# Altium integrated library Linear Technology Power Management Switching Regulator LTC1174-LTC3901.IntLib: 2647 symbols (part 212 of 364)
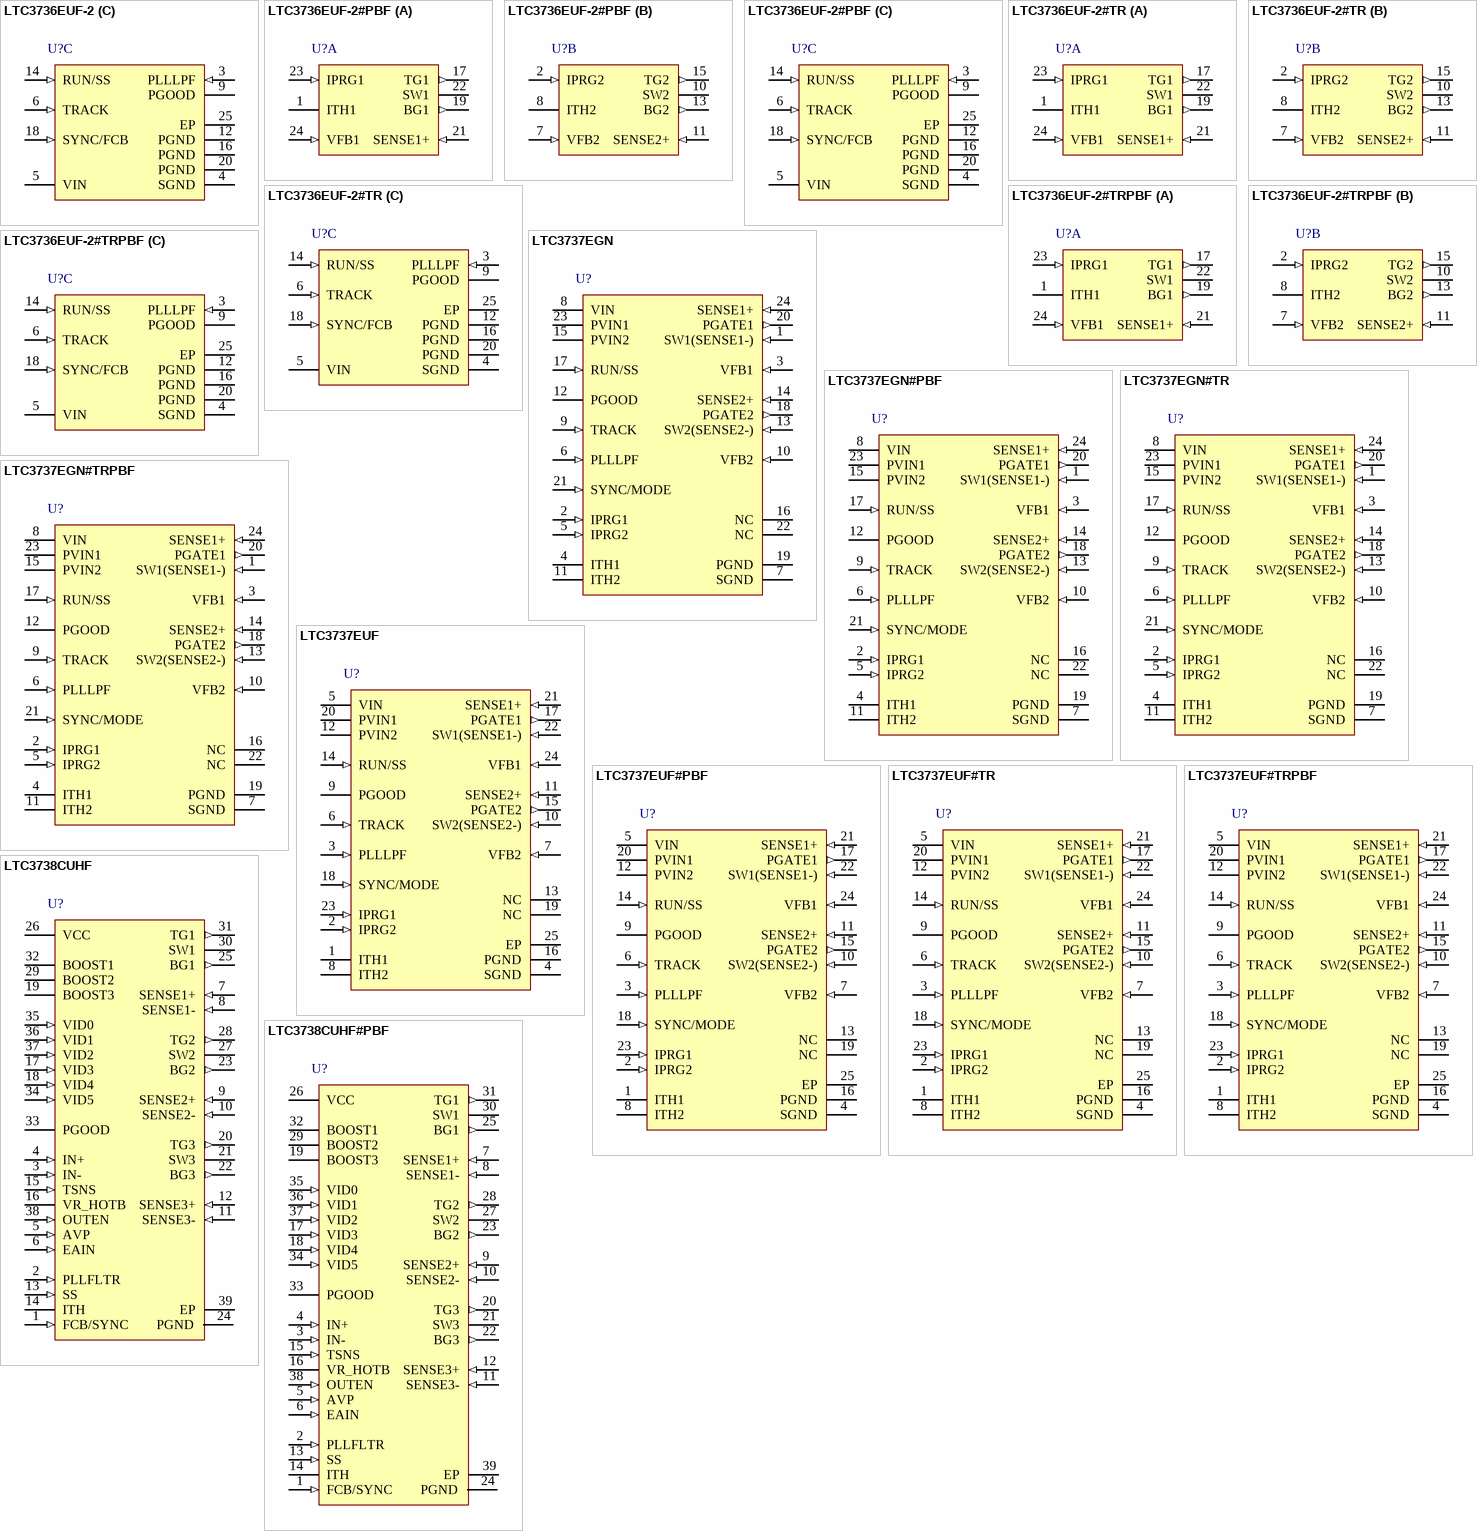
[diagram p225: symbols LTC3736EUF-2 to LTC3738CUHF#PBF]

## LTC3737EGN#TRPBF
designator U?
Dual 2-Phase, No Rsense DC/DC Controller with Output Tracking, 24-pin QFN (UF-24), 24-pin SOP (GN-24), -40 to 85 degC, Pb-Free, Tape and Reel; Manufacturer: Linear Technology; PartNumber: LTC3737EGN#TRPBF; Frequency Sync Range: 250kHz - 850kHz; Number of Outputs: 2; DatasheetVersion: Rev. A; PackageVersion: Rev. B, 03/2012; PackageReference: GN24; PackageDescription: 24-Pin Plastic SSOP , Body 8.5 x 3.9 mm, Pitch 0.635 mm; Supplier 1: Digi-Key; Supplier Part Number 1: LTC3737EGN#TRPBF-ND; Packing: Tape and Reel; RoHS: TRUE; Mounting Technology: Surface Mount; ComponentLink1Description: Manufacturer URL; ComponentLink1URL: http://www.linear.com/; ComponentLink2Description: Datasheet; ComponentLink2URL: http://cds.linear.com/docs/en/datasheet/3737fa.pdf; ComponentLink3Description: Package Specification; ComponentLink3URL: http://cds.linear.com/docs/en/packaging/05081641_B_GN24.pdf
footprint LT-GN-24_N (SOP, 24-Leads, Body 8.7x4mm, Pitch 0.635mm, IPC Medium Density)
footprint LT-GN-24_L (SOP, 24-Leads, Body 8.7x4mm, Pitch 0.635mm, IPC High Density)
footprint LT-GN-24_M (SOP, 24-Leads, Body 8.7x4mm, Pitch 0.635mm, IPC Low Density)
pins: 1 SW1(SENSE1-) (in) "Switch Node Connections to Inductors. Also the negative inputs to differential peak current comparators. Normally connected to the drains of the external P-Channel MOSFETs and the inductor when not using a sense resistor. (See Datasheet)", 2 IPRG1 (in) "Three-State Pins to Select Maximum Peak Sense Voltage Threshold. These pins select the maximum allowed voltage drop between the SENSE+ and SW pins (i.e., the maximum allowed drop across the external P-channel MOSFET) for (See Datasheet)", 3 VFB1 (in) "Each receives the remotely sensed feedback voltage for its controller from an external resistive divider across the output.", 4 ITH1 "Current Threshold and Error Amplifier Compensation Point. Nominal operating range on these pins is from 0.7V to 2V. The voltage on this pin determines the threshold of the main current comparator.", 5 IPRG2 (in) "Three-State Pins to Select Maximum Peak Sense Voltage Threshold. These pins select the maximum allowed voltage drop between the SENSE+ and SW pins (i.e., the maximum allowed drop across the external P-channel MOSFET) for (See Datasheet)", 6 PLLLPF (in) "Frequency Set/PLL Lowpass Filter. When synchronizing to an external clock, this pin serves as the lowpass filter point for the phase-locked loop. Normally, a series RC is connected between this pin and ground. When not (See Datasheet)", 7 SGND (power) "Signal Ground. This pin serves as the ground connection for most internal circuits.", 8 VIN (power) "Chip Signal Power Supply. This pin powers the entire chip except for the gate drivers. Externally filtering this pin with a lowpass RC network (e.g., R = 10ohm, C = 1uF) is suggested to minimize noise pickup, especially in (See Datasheet)", 9 TRACK (in) "Tracking Input for Second Controller. This pin allows the start-up of VOUT2 to “track” that of VOUT1 according to a ratio established by a resistor divider on VOUT1 connected to the TRACK pin. For one-to-one tracking(See Datasheet)", 10 VFB2 (in) "Each receives the remotely sensed feedback voltage for its controller from an external resistive divider across the output.", 11 ITH2 "Current Threshold and Error Amplifier Compensation Point. Nominal operating range on these pins is from 0.7V to 2V. The voltage on this pin determines the threshold of the main current comparator.", 12 PGOOD (oc) "Power Good Output Voltage Monitor Open-Drain Logic Output. This pin is pulled to ground when the voltage on either feedback pin (VFB1, VFB2) is not within +/-13.3% of its nominal set point.", 13 SW2(SENSE2-) (in) "Switch Node Connections to Inductors. Also the negative inputs to differential peak current comparators. Normally connected to the drains of the external P-Channel MOSFETs and the inductor when not using a sense resistor. (See Datasheet)", 14 SENSE2+ (in) "Positive Inputs to Differential Current Comparators. Normally connected to the sources of the external P-channel MOSFETs.", 15 PVIN2 (power) "Powers of the Gate Drivers.", 16 NC "No Connect.", 17 RUN/SS (in) "Run Control Input and Optional External Soft-Start Input. Forcing this pin below 0.65V shuts down the chip (both channels). Driving this pin to VIN or releasing this pin enables the chip to start-up with the internal (See Datasheet)", 18 PGATE2 (out) "Gate Drives for External P-Channel MOSFETs. These pins have an output swing from PGND to SENSE+.", 19 PGND (power) "Power Ground. This pin serves as the ground connection for the gate drivers.", 20 PGATE1 (out) "Gate Drives for External P-Channel MOSFETs. These pins have an output swing from PGND to SENSE+.", 21 SYNC/MODE (in) "External Clock Synchronization and Burst Mode/Pulse Skipping Select. Applying a clock with frequency between 250kHz to 850kHz causes the internal oscillator to phase lock to the external clock, and disables Burst Mode (See Datasheet)", 22 NC "No Connect.", 23 PVIN1 (power) "Powers of the Gate Drivers.", 24 SENSE1+ (in) "Positive Inputs to Differential Current Comparators. Normally connected to the sources of the external P-channel MOSFETs."

## LTC3737EUF
designator U?
Dual 2-Phase, No Rsense DC/DC Controller with Output Tracking, 24-pin QFN (UF-24), -40 to 85 degC; Manufacturer: Linear Technology; PartNumber: LTC3737EUF; Frequency Sync Range: 250kHz - 850kHz; Number of Outputs: 2; DatasheetVersion: Rev. A; PackageVersion: Rev. B, 02/2012; PackageReference: UF24; PackageDescription: 24-Pin Plastic QFN, Body 4 x 4 mm, Pitch 0.5 mm; Supplier 1: Digi-Key; Supplier Part Number 1: LTC3737EUF-ND; RoHS: FALSE; Mounting Technology: Surface Mount; Code_JEDEC: MO-220; ComponentLink1Description: Manufacturer URL; ComponentLink1URL: http://www.linear.com/; ComponentLink2Description: Datasheet; ComponentLink2URL: http://cds.linear.com/docs/en/datasheet/3737fa.pdf; ComponentLink3Description: Package Specification; ComponentLink3URL: http://cds.linear.com/docs/en/packaging/%28UF24%29%20QFN%2005-08-1697%20Rev%20B.pdf
footprint LT-UF-24_N (QFN, 24-Leads, Body 4.1x4.1mm, Pitch 0.5mm, Thermal Pad 2.45x2.45mm, IPC Medium Density)
footprint LT-UF-24_L (QFN, 24-Leads, Body 4.1x4.1mm, Pitch 0.5mm, Thermal Pad 2.45x2.45mm, IPC High Density)
footprint LT-UF-24_M (QFN, 24-Leads, Body 4.1x4.1mm, Pitch 0.5mm, Thermal Pad 2.45x2.45mm, IPC Low Density)
pins: 1 ITH1 "Current Threshold and Error Amplifier Compensation Point. Nominal operating range on these pins is from 0.7V to 2V. The voltage on this pin determines the threshold of the main current comparator.", 2 IPRG2 (in) "Three-State Pins to Select Maximum Peak Sense Voltage Threshold. These pins select the maximum allowed voltage drop between the SENSE+ and SW pins (i.e., the maximum allowed drop across the external P-channel MOSFET) for (See Datasheet)", 3 PLLLPF (in) "Frequency Set/PLL Lowpass Filter. When synchronizing to an external clock, this pin serves as the lowpass filter point for the phase-locked loop. Normally, a series RC is connected between this pin and ground. When not (See Datasheet)", 4 SGND (power) "Signal Ground. This pin serves as the ground connection for most internal circuits.", 5 VIN (power) "Chip Signal Power Supply. This pin powers the entire chip except for the gate drivers. Externally filtering this pin with a lowpass RC network (e.g., R = 10ohm, C = 1uF) is suggested to minimize noise pickup, especially in (See Datasheet)", 6 TRACK (in) "Tracking Input for Second Controller. This pin allows the start-up of VOUT2 to “track” that of VOUT1 according to a ratio established by a resistor divider on VOUT1 connected to the TRACK pin. For one-to-one tracking(See Datasheet)", 7 VFB2 (in) "Each receives the remotely sensed feedback voltage for its controller from an external resistive divider across the output.", 8 ITH2 "Current Threshold and Error Amplifier Compensation Point. Nominal operating range on these pins is from 0.7V to 2V. The voltage on this pin determines the threshold of the main current comparator.", 9 PGOOD (oc) "Power Good Output Voltage Monitor Open-Drain Logic Output. This pin is pulled to ground when the voltage on either feedback pin (VFB1, VFB2) is not within +/-13.3% of its nominal set point.", 10 SW2(SENSE2-) (in) "Switch Node Connections to Inductors. Also the negative inputs to differential peak current comparators. Normally connected to the drains of the external P-Channel MOSFETs and the inductor when not using a sense resistor. (See Datasheet)", 11 SENSE2+ (in) "Positive Inputs to Differential Current Comparators. Normally connected to the sources of the external P-channel MOSFETs.", 12 PVIN2 (power) "Powers of the Gate Drivers.", 13 NC "No Connect.", 14 RUN/SS (in) "Run Control Input and Optional External Soft-Start Input. Forcing this pin below 0.65V shuts down the chip (both channels). Driving this pin to VIN or releasing this pin enables the chip to start-up with the internal (See Datasheet)", 15 PGATE2 (out) "Gate Drives for External P-Channel MOSFETs. These pins have an output swing from PGND to SENSE+.", 16 PGND (power) "Power Ground. This pin serves as the ground connection for the gate drivers.", 17 PGATE1 (out) "Gate Drives for External P-Channel MOSFETs. These pins have an output swing from PGND to SENSE+.", 18 SYNC/MODE (in) "External Clock Synchronization and Burst Mode/Pulse Skipping Select. Applying a clock with frequency between 250kHz to 850kHz causes the internal oscillator to phase lock to the external clock, and disables Burst Mode (See Datasheet)", 19 NC "No Connect.", 20 PVIN1 (power) "Powers of the Gate Drivers.", 21 SENSE1+ (in) "Positive Inputs to Differential Current Comparators. Normally connected to the sources of the external P-channel MOSFETs.", 22 SW1(SENSE1-) (in) "Switch Node Connections to Inductors. Also the negative inputs to differential peak current comparators. Normally connected to the drains of the external P-Channel MOSFETs and the inductor when not using a sense resistor. (See Datasheet)", 23 IPRG1 (in) "Three-State Pins to Select Maximum Peak Sense Voltage Threshold. These pins select the maximum allowed voltage drop between the SENSE+ and SW pins (i.e., the maximum allowed drop across the external P-channel MOSFET) for (See Datasheet)", 24 VFB1 (in) "Each receives the remotely sensed feedback voltage for its controller from an external resistive divider across the output.", 25 EP (power) "Exposed Pad is PGND and must be soldered to PCB."

## LTC3737EUF#PBF
designator U?
Dual 2-Phase, No Rsense DC/DC Controller with Output Tracking, 24-pin QFN (UF-24), -40 to 85 degC, Pb-Free; Manufacturer: Linear Technology; PartNumber: LTC3737EUF#PBF; Frequency Sync Range: 250kHz - 850kHz; Number of Outputs: 2; DatasheetVersion: Rev. A; PackageVersion: Rev. B, 02/2012; PackageReference: UF24; PackageDescription: 24-Pin Plastic QFN, Body 4 x 4 mm, Pitch 0.5 mm; Supplier 1: Digi-Key; Supplier Part Number 1: LTC3737EUF#PBF-ND; Supplier 2: Newark; Supplier Part Number 2: 56M8351; RoHS: TRUE; Mounting Technology: Surface Mount; Code_JEDEC: MO-220; ComponentLink1Description: Manufacturer URL; ComponentLink1URL: http://www.linear.com/; ComponentLink2Description: Datasheet; ComponentLink2URL: http://cds.linear.com/docs/en/datasheet/3737fa.pdf; ComponentLink3Description: Package Specification; ComponentLink3URL: http://cds.linear.com/docs/en/packaging/%28UF24%29%20QFN%2005-08-1697%20Rev%20B.pdf
footprint LT-UF-24_N (QFN, 24-Leads, Body 4.1x4.1mm, Pitch 0.5mm, Thermal Pad 2.45x2.45mm, IPC Medium Density)
footprint LT-UF-24_L (QFN, 24-Leads, Body 4.1x4.1mm, Pitch 0.5mm, Thermal Pad 2.45x2.45mm, IPC High Density)
footprint LT-UF-24_M (QFN, 24-Leads, Body 4.1x4.1mm, Pitch 0.5mm, Thermal Pad 2.45x2.45mm, IPC Low Density)
pins: 1 ITH1 "Current Threshold and Error Amplifier Compensation Point. Nominal operating range on these pins is from 0.7V to 2V. The voltage on this pin determines the threshold of the main current comparator.", 2 IPRG2 (in) "Three-State Pins to Select Maximum Peak Sense Voltage Threshold. These pins select the maximum allowed voltage drop between the SENSE+ and SW pins (i.e., the maximum allowed drop across the external P-channel MOSFET) for (See Datasheet)", 3 PLLLPF (in) "Frequency Set/PLL Lowpass Filter. When synchronizing to an external clock, this pin serves as the lowpass filter point for the phase-locked loop. Normally, a series RC is connected between this pin and ground. When not (See Datasheet)", 4 SGND (power) "Signal Ground. This pin serves as the ground connection for most internal circuits.", 5 VIN (power) "Chip Signal Power Supply. This pin powers the entire chip except for the gate drivers. Externally filtering this pin with a lowpass RC network (e.g., R = 10ohm, C = 1uF) is suggested to minimize noise pickup, especially in (See Datasheet)", 6 TRACK (in) "Tracking Input for Second Controller. This pin allows the start-up of VOUT2 to “track” that of VOUT1 according to a ratio established by a resistor divider on VOUT1 connected to the TRACK pin. For one-to-one tracking(See Datasheet)", 7 VFB2 (in) "Each receives the remotely sensed feedback voltage for its controller from an external resistive divider across the output.", 8 ITH2 "Current Threshold and Error Amplifier Compensation Point. Nominal operating range on these pins is from 0.7V to 2V. The voltage on this pin determines the threshold of the main current comparator.", 9 PGOOD (oc) "Power Good Output Voltage Monitor Open-Drain Logic Output. This pin is pulled to ground when the voltage on either feedback pin (VFB1, VFB2) is not within +/-13.3% of its nominal set point.", 10 SW2(SENSE2-) (in) "Switch Node Connections to Inductors. Also the negative inputs to differential peak current comparators. Normally connected to the drains of the external P-Channel MOSFETs and the inductor when not using a sense resistor. (See Datasheet)", 11 SENSE2+ (in) "Positive Inputs to Differential Current Comparators. Normally connected to the sources of the external P-channel MOSFETs.", 12 PVIN2 (power) "Powers of the Gate Drivers.", 13 NC "No Connect.", 14 RUN/SS (in) "Run Control Input and Optional External Soft-Start Input. Forcing this pin below 0.65V shuts down the chip (both channels). Driving this pin to VIN or releasing this pin enables the chip to start-up with the internal (See Datasheet)", 15 PGATE2 (out) "Gate Drives for External P-Channel MOSFETs. These pins have an output swing from PGND to SENSE+.", 16 PGND (power) "Power Ground. This pin serves as the ground connection for the gate drivers.", 17 PGATE1 (out) "Gate Drives for External P-Channel MOSFETs. These pins have an output swing from PGND to SENSE+.", 18 SYNC/MODE (in) "External Clock Synchronization and Burst Mode/Pulse Skipping Select. Applying a clock with frequency between 250kHz to 850kHz causes the internal oscillator to phase lock to the external clock, and disables Burst Mode (See Datasheet)", 19 NC "No Connect.", 20 PVIN1 (power) "Powers of the Gate Drivers.", 21 SENSE1+ (in) "Positive Inputs to Differential Current Comparators. Normally connected to the sources of the external P-channel MOSFETs.", 22 SW1(SENSE1-) (in) "Switch Node Connections to Inductors. Also the negative inputs to differential peak current comparators. Normally connected to the drains of the external P-Channel MOSFETs and the inductor when not using a sense resistor. (See Datasheet)", 23 IPRG1 (in) "Three-State Pins to Select Maximum Peak Sense Voltage Threshold. These pins select the maximum allowed voltage drop between the SENSE+ and SW pins (i.e., the maximum allowed drop across the external P-channel MOSFET) for (See Datasheet)", 24 VFB1 (in) "Each receives the remotely sensed feedback voltage for its controller from an external resistive divider across the output.", 25 EP (power) "Exposed Pad is PGND and must be soldered to PCB."

## LTC3737EUF#TR
designator U?
Dual 2-Phase, No Rsense DC/DC Controller with Output Tracking, 24-pin QFN (UF-24), -40 to 85 degC, Tape and Reel; Manufacturer: Linear Technology; PartNumber: LTC3737EUF#TR; Frequency Sync Range: 250kHz - 850kHz; Number of Outputs: 2; DatasheetVersion: Rev. A; PackageVersion: Rev. B, 02/2012; PackageReference: UF24; PackageDescription: 24-Pin Plastic QFN, Body 4 x 4 mm, Pitch 0.5 mm; Supplier 1: Digi-Key; Supplier Part Number 1: LTC3737EUF#TR-ND; Packing: Tape and Reel; RoHS: FALSE; Mounting Technology: Surface Mount; Code_JEDEC: MO-220; ComponentLink1Description: Manufacturer URL; ComponentLink1URL: http://www.linear.com/; ComponentLink2Description: Datasheet; ComponentLink2URL: http://cds.linear.com/docs/en/datasheet/3737fa.pdf; ComponentLink3Description: Package Specification; ComponentLink3URL: http://cds.linear.com/docs/en/packaging/%28UF24%29%20QFN%2005-08-1697%20Rev%20B.pdf
footprint LT-UF-24_N (QFN, 24-Leads, Body 4.1x4.1mm, Pitch 0.5mm, Thermal Pad 2.45x2.45mm, IPC Medium Density)
footprint LT-UF-24_L (QFN, 24-Leads, Body 4.1x4.1mm, Pitch 0.5mm, Thermal Pad 2.45x2.45mm, IPC High Density)
footprint LT-UF-24_M (QFN, 24-Leads, Body 4.1x4.1mm, Pitch 0.5mm, Thermal Pad 2.45x2.45mm, IPC Low Density)
pins: 1 ITH1 "Current Threshold and Error Amplifier Compensation Point. Nominal operating range on these pins is from 0.7V to 2V. The voltage on this pin determines the threshold of the main current comparator.", 2 IPRG2 (in) "Three-State Pins to Select Maximum Peak Sense Voltage Threshold. These pins select the maximum allowed voltage drop between the SENSE+ and SW pins (i.e., the maximum allowed drop across the external P-channel MOSFET) for (See Datasheet)", 3 PLLLPF (in) "Frequency Set/PLL Lowpass Filter. When synchronizing to an external clock, this pin serves as the lowpass filter point for the phase-locked loop. Normally, a series RC is connected between this pin and ground. When not (See Datasheet)", 4 SGND (power) "Signal Ground. This pin serves as the ground connection for most internal circuits.", 5 VIN (power) "Chip Signal Power Supply. This pin powers the entire chip except for the gate drivers. Externally filtering this pin with a lowpass RC network (e.g., R = 10ohm, C = 1uF) is suggested to minimize noise pickup, especially in (See Datasheet)", 6 TRACK (in) "Tracking Input for Second Controller. This pin allows the start-up of VOUT2 to “track” that of VOUT1 according to a ratio established by a resistor divider on VOUT1 connected to the TRACK pin. For one-to-one tracking(See Datasheet)", 7 VFB2 (in) "Each receives the remotely sensed feedback voltage for its controller from an external resistive divider across the output.", 8 ITH2 "Current Threshold and Error Amplifier Compensation Point. Nominal operating range on these pins is from 0.7V to 2V. The voltage on this pin determines the threshold of the main current comparator.", 9 PGOOD (oc) "Power Good Output Voltage Monitor Open-Drain Logic Output. This pin is pulled to ground when the voltage on either feedback pin (VFB1, VFB2) is not within +/-13.3% of its nominal set point.", 10 SW2(SENSE2-) (in) "Switch Node Connections to Inductors. Also the negative inputs to differential peak current comparators. Normally connected to the drains of the external P-Channel MOSFETs and the inductor when not using a sense resistor. (See Datasheet)", 11 SENSE2+ (in) "Positive Inputs to Differential Current Comparators. Normally connected to the sources of the external P-channel MOSFETs.", 12 PVIN2 (power) "Powers of the Gate Drivers.", 13 NC "No Connect.", 14 RUN/SS (in) "Run Control Input and Optional External Soft-Start Input. Forcing this pin below 0.65V shuts down the chip (both channels). Driving this pin to VIN or releasing this pin enables the chip to start-up with the internal (See Datasheet)", 15 PGATE2 (out) "Gate Drives for External P-Channel MOSFETs. These pins have an output swing from PGND to SENSE+.", 16 PGND (power) "Power Ground. This pin serves as the ground connection for the gate drivers.", 17 PGATE1 (out) "Gate Drives for External P-Channel MOSFETs. These pins have an output swing from PGND to SENSE+.", 18 SYNC/MODE (in) "External Clock Synchronization and Burst Mode/Pulse Skipping Select. Applying a clock with frequency between 250kHz to 850kHz causes the internal oscillator to phase lock to the external clock, and disables Burst Mode (See Datasheet)", 19 NC "No Connect.", 20 PVIN1 (power) "Powers of the Gate Drivers.", 21 SENSE1+ (in) "Positive Inputs to Differential Current Comparators. Normally connected to the sources of the external P-channel MOSFETs.", 22 SW1(SENSE1-) (in) "Switch Node Connections to Inductors. Also the negative inputs to differential peak current comparators. Normally connected to the drains of the external P-Channel MOSFETs and the inductor when not using a sense resistor. (See Datasheet)", 23 IPRG1 (in) "Three-State Pins to Select Maximum Peak Sense Voltage Threshold. These pins select the maximum allowed voltage drop between the SENSE+ and SW pins (i.e., the maximum allowed drop across the external P-channel MOSFET) for (See Datasheet)", 24 VFB1 (in) "Each receives the remotely sensed feedback voltage for its controller from an external resistive divider across the output.", 25 EP (power) "Exposed Pad is PGND and must be soldered to PCB."

## LTC3737EUF#TRPBF
designator U?
Dual 2-Phase, No Rsense DC/DC Controller with Output Tracking, 24-pin QFN (UF-24), -40 to 85 degC, Pb-Free, Tape and Reel; Manufacturer: Linear Technology; PartNumber: LTC3737EUF#TRPBF; Frequency Sync Range: 250kHz - 850kHz; Number of Outputs: 2; DatasheetVersion: Rev. A; PackageVersion: Rev. B, 02/2012; PackageReference: UF24; PackageDescription: 24-Pin Plastic QFN, Body 4 x 4 mm, Pitch 0.5 mm; Supplier 1: Digi-Key; Supplier Part Number 1: LTC3737EUF#TRPBF-ND; Supplier 2: Newark; Supplier Part Number 2: 56M8353; Packing: Tape and Reel; RoHS: TRUE; Mounting Technology: Surface Mount; Code_JEDEC: MO-220; ComponentLink1Description: Manufacturer URL; ComponentLink1URL: http://www.linear.com/; ComponentLink2Description: Datasheet; ComponentLink2URL: http://cds.linear.com/docs/en/datasheet/3737fa.pdf; ComponentLink3Description: Package Specification; ComponentLink3URL: http://cds.linear.com/docs/en/packaging/%28UF24%29%20QFN%2005-08-1697%20Rev%20B.pdf
footprint LT-UF-24_N (QFN, 24-Leads, Body 4.1x4.1mm, Pitch 0.5mm, Thermal Pad 2.45x2.45mm, IPC Medium Density)
footprint LT-UF-24_L (QFN, 24-Leads, Body 4.1x4.1mm, Pitch 0.5mm, Thermal Pad 2.45x2.45mm, IPC High Density)
footprint LT-UF-24_M (QFN, 24-Leads, Body 4.1x4.1mm, Pitch 0.5mm, Thermal Pad 2.45x2.45mm, IPC Low Density)
pins: 1 ITH1 "Current Threshold and Error Amplifier Compensation Point. Nominal operating range on these pins is from 0.7V to 2V. The voltage on this pin determines the threshold of the main current comparator.", 2 IPRG2 (in) "Three-State Pins to Select Maximum Peak Sense Voltage Threshold. These pins select the maximum allowed voltage drop between the SENSE+ and SW pins (i.e., the maximum allowed drop across the external P-channel MOSFET) for (See Datasheet)", 3 PLLLPF (in) "Frequency Set/PLL Lowpass Filter. When synchronizing to an external clock, this pin serves as the lowpass filter point for the phase-locked loop. Normally, a series RC is connected between this pin and ground. When not (See Datasheet)", 4 SGND (power) "Signal Ground. This pin serves as the ground connection for most internal circuits.", 5 VIN (power) "Chip Signal Power Supply. This pin powers the entire chip except for the gate drivers. Externally filtering this pin with a lowpass RC network (e.g., R = 10ohm, C = 1uF) is suggested to minimize noise pickup, especially in (See Datasheet)", 6 TRACK (in) "Tracking Input for Second Controller. This pin allows the start-up of VOUT2 to “track” that of VOUT1 according to a ratio established by a resistor divider on VOUT1 connected to the TRACK pin. For one-to-one tracking(See Datasheet)", 7 VFB2 (in) "Each receives the remotely sensed feedback voltage for its controller from an external resistive divider across the output.", 8 ITH2 "Current Threshold and Error Amplifier Compensation Point. Nominal operating range on these pins is from 0.7V to 2V. The voltage on this pin determines the threshold of the main current comparator.", 9 PGOOD (oc) "Power Good Output Voltage Monitor Open-Drain Logic Output. This pin is pulled to ground when the voltage on either feedback pin (VFB1, VFB2) is not within +/-13.3% of its nominal set point.", 10 SW2(SENSE2-) (in) "Switch Node Connections to Inductors. Also the negative inputs to differential peak current comparators. Normally connected to the drains of the external P-Channel MOSFETs and the inductor when not using a sense resistor. (See Datasheet)", 11 SENSE2+ (in) "Positive Inputs to Differential Current Comparators. Normally connected to the sources of the external P-channel MOSFETs.", 12 PVIN2 (power) "Powers of the Gate Drivers.", 13 NC "No Connect.", 14 RUN/SS (in) "Run Control Input and Optional External Soft-Start Input. Forcing this pin below 0.65V shuts down the chip (both channels). Driving this pin to VIN or releasing this pin enables the chip to start-up with the internal (See Datasheet)", 15 PGATE2 (out) "Gate Drives for External P-Channel MOSFETs. These pins have an output swing from PGND to SENSE+.", 16 PGND (power) "Power Ground. This pin serves as the ground connection for the gate drivers.", 17 PGATE1 (out) "Gate Drives for External P-Channel MOSFETs. These pins have an output swing from PGND to SENSE+.", 18 SYNC/MODE (in) "External Clock Synchronization and Burst Mode/Pulse Skipping Select. Applying a clock with frequency between 250kHz to 850kHz causes the internal oscillator to phase lock to the external clock, and disables Burst Mode (See Datasheet)", 19 NC "No Connect.", 20 PVIN1 (power) "Powers of the Gate Drivers.", 21 SENSE1+ (in) "Positive Inputs to Differential Current Comparators. Normally connected to the sources of the external P-channel MOSFETs.", 22 SW1(SENSE1-) (in) "Switch Node Connections to Inductors. Also the negative inputs to differential peak current comparators. Normally connected to the drains of the external P-Channel MOSFETs and the inductor when not using a sense resistor. (See Datasheet)", 23 IPRG1 (in) "Three-State Pins to Select Maximum Peak Sense Voltage Threshold. These pins select the maximum allowed voltage drop between the SENSE+ and SW pins (i.e., the maximum allowed drop across the external P-channel MOSFET) for (See Datasheet)", 24 VFB1 (in) "Each receives the remotely sensed feedback voltage for its controller from an external resistive divider across the output.", 25 EP (power) "Exposed Pad is PGND and must be soldered to PCB."

## LTC3738CUHF
designator U?
3-Phase Buck Controller for Intel VRM9 / VRM10 with Active Voltage Positioning, 38-pin QFN (UHF-38), 0 to 85 degC; Manufacturer: Linear Technology; PartNumber: LTC3738CUHF; Frequency Sync Range: 210kHz - 530kHz; Number of Outputs: 1; PackageVersion: Rev. C, 06/2010; PackageReference: UHF-38; PackageDescription: 38-Pin Plastic QFN, Body 7 x 5 mm, Pitch 0.5 mm; Supplier 1: Digi-Key; Supplier Part Number 1: LTC3738CUHF-ND; RoHS: FALSE; Mounting Technology: Surface Mount; Code_JEDEC: MO-220; ComponentLink1Description: Manufacturer URL; ComponentLink1URL: http://www.linear.com/; ComponentLink2Description: Datasheet; ComponentLink2URL: http://cds.linear.com/docs/en/datasheet/3738f.pdf; ComponentLink3Description: Package Specification; ComponentLink3URL: http://cds.linear.com/docs/en/packaging/QFN_38_05-08-1701.pdf
footprint LT-UHF-38_N (QFN, 38-Leads, Body 7.1x5.1mm, Pitch 0.5mm, Thermal Pad 3.15x5.15mm, IPC Medium Density)
footprint LT-UHF-38_L (QFN, 38-Leads, Body 7.1x5.1mm, Pitch 0.5mm, Thermal Pad 3.15x5.15mm, IPC High Density)
footprint LT-UHF-38_M (QFN, 38-Leads, Body 7.1x5.1mm, Pitch 0.5mm, Thermal Pad 3.15x5.15mm, IPC Low Density)
pins: 1 FCB/SYNC (in) "Forced Continuous Control Input. The voltage applied to this pin sets the operating mode of the controller. The forced continuous current mode is active when the applied voltage is less than 0.6V. Pulse skip mode operation (See Datasheet)", 2 PLLFLTR (in) "The phase-locked loop’s lowpass filter is tied to this pin. Alternatively, this pin can be driven with an AC or DC voltage source to vary the frequency of the internal oscillator. (Do not apply voltage to this pin prior t(See Datasheet)", 3 IN- (in) "Inputs to a Precision, Unity-Gain Differential Amplifier with Internal Precision Resistors. This provides true remote sensing of both the positive and negative load terminals for precise output voltage control.", 4 IN+ (in) "Inputs to a Precision, Unity-Gain Differential Amplifier with Internal Precision Resistors. This provides true remote sensing of both the positive and negative load terminals for precise output voltage control.", 5 AVP (in) "Active Voltage Positioning Load Slope Programming Pin. A resistor tied between this pin and IN+ sets the load slope.", 6 EAIN (in) "This is the input to the error amplifier which compares the VID divided feedback voltage to the internal 0.6V reference voltage.", 7 SENSE1+ (in) "The Inputs to Each Differential Current Comparator. The ITH pin voltage and built-in offsets between the SENSE-  and SENSE+  pins, in conjunction with RSENSE, set the current trip threshold level.", 8 SENSE1- (in) "The Inputs to Each Differential Current Comparator. The ITH pin voltage and built-in offsets between the SENSE-  and SENSE+  pins, in conjunction with RSENSE, set the current trip threshold level.", 9 SENSE2+ (in) "The Inputs to Each Differential Current Comparator. The ITH pin voltage and built-in offsets between the SENSE-  and SENSE+  pins, in conjunction with RSENSE, set the current trip threshold level.", 10 SENSE2- (in) "The Inputs to Each Differential Current Comparator. The ITH pin voltage and built-in offsets between the SENSE-  and SENSE+  pins, in conjunction with RSENSE, set the current trip threshold level.", 11 SENSE3- (in) "The Inputs to Each Differential Current Comparator. The ITH pin voltage and built-in offsets between the SENSE-  and SENSE+  pins, in conjunction with RSENSE, set the current trip threshold level.", 12 SENSE3+ (in) "The Inputs to Each Differential Current Comparator. The ITH pin voltage and built-in offsets between the SENSE-  and SENSE+  pins, in conjunction with RSENSE, set the current trip threshold level.", 13 SS (in) "Combination of Soft-Start and Short-Circuit Detection Timer. A capacitor to ground at this pin sets the ramp time to full current output as well as the time delay prior to an output voltage short-circuit shutdown.", 14 ITH "Error Amplifier Output and Switching Regulator Compensation Point. All three current comparator’s thresholds increase with this control voltage.", 15 TSNS (in) "This pin selects external or internal thermal detection. Tying this pin to VCC will enable the internal thermal detector. When the voltage at this pin is less than VCC - 1.6V, the internal thermal detector is disabled and (See Datasheet)", 16 VR_HOTB (oc) "This open-collector output is pulled low when voltage at the TSNS pin is less than VCC/3. If TSNS is tied to VCC, this pin is pulled low when the internal thermal detector is tripped.", 17 VID3 (in) "Output Voltage Programming Input Pins. When VID5 is tied to VCC, the Intel VRM9 VID table is selected. When voltage of VID5 is less than VCC - 2V, VID5 serves as the fifth VID bit of VRM10.", 18 VID4 (in) "Output Voltage Programming Input Pins. When VID5 is tied to VCC, the Intel VRM9 VID table is selected. When voltage of VID5 is less than VCC - 2V, VID5 serves as the fifth VID bit of VRM10.", 19 BOOST3 "Positive Supply Pins to the Topside Floating Drivers. Bootstrapped capacitors, charged with external Schottky diodes and a boost voltage source are connected between the BOOST and SW pins. Voltage swing at the BOOST pins is (See Datasheet)", 20 TG3 (out) "High Current Gate Drives for Top N-Channel MOSFETs. These are the outputs of the floating drivers with a voltage swing equal to the boost voltage source superimposed on the switch node voltage SW.", 21 SW3 "Switch Node Connections to Inductors. Voltage swing at these pins is from a Schottky diode (external) voltage drop below ground to VIN (where VIN is the external MOSFET supply rail).", 22 BG3 (out) "High Current Gate Drives for the Bottom N-Channel MOSFETs. Voltage swing at these pins is from ground to VCC.", 23 BG2 (out) "High Current Gate Drives for the Bottom N-Channel MOSFETs. Voltage swing at these pins is from ground to VCC.", 24 PGND (power) "Driver Power Ground. This pin connects to the sources of the bottom N-channel external MOSFETs and the (-) terminals of CIN.", 25 BG1 (out) "High Current Gate Drives for the Bottom N-Channel MOSFETs. Voltage swing at these pins is from ground to VCC.", 26 VCC (power) "Supply Pin. Because this pin supplies both the controller circuit power as well as the high power pulses supplied to drive the external MOSFET gates, this pin needs to be very carefully and closely decoupled to the IC’(See Datasheet)", 27 SW2 "Switch Node Connections to Inductors. Voltage swing at these pins is from a Schottky diode (external) voltage drop below ground to VIN (where VIN is the external MOSFET supply rail).", 28 TG2 (out) "High Current Gate Drives for Top N-Channel MOSFETs. These are the outputs of the floating drivers with a voltage swing equal to the boost voltage source superimposed on the switch node voltage SW.", 29 BOOST2 "Positive Supply Pins to the Topside Floating Drivers. Bootstrapped capacitors, charged with external Schottky diodes and a boost voltage source are connected between the BOOST and SW pins. Voltage swing at the BOOST pins is (See Datasheet)", 30 SW1 "Switch Node Connections to Inductors. Voltage swing at these pins is from a Schottky diode (external) voltage drop below ground to VIN (where VIN is the external MOSFET supply rail).", 31 TG1 (out) "High Current Gate Drives for Top N-Channel MOSFETs. These are the outputs of the floating drivers with a voltage swing equal to the boost voltage source superimposed on the switch node voltage SW.", 32 BOOST1 "Positive Supply Pins to the Topside Floating Drivers. Bootstrapped capacitors, charged with external Schottky diodes and a boost voltage source are connected between the BOOST and SW pins. Voltage swing at the BOOST pins is (See Datasheet)", 33 PGOOD (oc) "This open-drain output is pulled low when the output voltage is outside the PGOOD tolerance window. PGOOD is blanked during VID transitions for approximately 100us.", 34 VID5 (in) "Output Voltage Programming Input Pins. When VID5 is tied to VCC, the Intel VRM9 VID table is selected. When voltage of VID5 is less than VCC - 2V, VID5 serves as the fifth VID bit of VRM10.", 35 VID0 (in) "Output Voltage Programming Input Pins. When VID5 is tied to VCC, the Intel VRM9 VID table is selected. When voltage of VID5 is less than VCC - 2V, VID5 serves as the fifth VID bit of VRM10.", 36 VID1 (in) "Output Voltage Programming Input Pins. When VID5 is tied to VCC, the Intel VRM9 VID table is selected. When voltage of VID5 is less than VCC - 2V, VID5 serves as the fifth VID bit of VRM10.", 37 VID2 (in) "Output Voltage Programming Input Pins. When VID5 is tied to VCC, the Intel VRM9 VID table is selected. When voltage of VID5 is less than VCC - 2V, VID5 serves as the fifth VID bit of VRM10.", 38 OUTEN (in) "On/Off Control of the Controller.", 39 EP (power) "Signal Ground. This pin must be soldered to the ground plane."

## LTC3738CUHF#PBF
designator U?
3-Phase Buck Controller for Intel VRM9 / VRM10 with Active Voltage Positioning, 38-pin QFN (UHF-38), 0 to 85 degC, Pb-Free; Manufacturer: Linear Technology; PartNumber: LTC3738CUHF#PBF; Frequency Sync Range: 210kHz - 530kHz; Number of Outputs: 1; PackageVersion: Rev. C, 06/2010; PackageReference: UHF-38; PackageDescription: 38-Pin Plastic QFN, Body 7 x 5 mm, Pitch 0.5 mm; Supplier 1: Digi-Key; Supplier Part Number 1: LTC3738CUHF#PBF-ND; Supplier 2: Newark; Supplier Part Number 2: 56M8355; RoHS: TRUE; Mounting Technology: Surface Mount; Code_JEDEC: MO-220; ComponentLink1Description: Manufacturer URL; ComponentLink1URL: http://www.linear.com/; ComponentLink2Description: Datasheet; ComponentLink2URL: http://cds.linear.com/docs/en/datasheet/3738f.pdf; ComponentLink3Description: Package Specification; ComponentLink3URL: http://cds.linear.com/docs/en/packaging/QFN_38_05-08-1701.pdf
footprint LT-UHF-38_N (QFN, 38-Leads, Body 7.1x5.1mm, Pitch 0.5mm, Thermal Pad 3.15x5.15mm, IPC Medium Density)
footprint LT-UHF-38_L (QFN, 38-Leads, Body 7.1x5.1mm, Pitch 0.5mm, Thermal Pad 3.15x5.15mm, IPC High Density)
footprint LT-UHF-38_M (QFN, 38-Leads, Body 7.1x5.1mm, Pitch 0.5mm, Thermal Pad 3.15x5.15mm, IPC Low Density)
pins: 1 FCB/SYNC (in) "Forced Continuous Control Input. The voltage applied to this pin sets the operating mode of the controller. The forced continuous current mode is active when the applied voltage is less than 0.6V. Pulse skip mode operation (See Datasheet)", 2 PLLFLTR (in) "The phase-locked loop’s lowpass filter is tied to this pin. Alternatively, this pin can be driven with an AC or DC voltage source to vary the frequency of the internal oscillator. (Do not apply voltage to this pin prior t(See Datasheet)", 3 IN- (in) "Inputs to a Precision, Unity-Gain Differential Amplifier with Internal Precision Resistors. This provides true remote sensing of both the positive and negative load terminals for precise output voltage control.", 4 IN+ (in) "Inputs to a Precision, Unity-Gain Differential Amplifier with Internal Precision Resistors. This provides true remote sensing of both the positive and negative load terminals for precise output voltage control.", 5 AVP (in) "Active Voltage Positioning Load Slope Programming Pin. A resistor tied between this pin and IN+ sets the load slope.", 6 EAIN (in) "This is the input to the error amplifier which compares the VID divided feedback voltage to the internal 0.6V reference voltage.", 7 SENSE1+ (in) "The Inputs to Each Differential Current Comparator. The ITH pin voltage and built-in offsets between the SENSE-  and SENSE+  pins, in conjunction with RSENSE, set the current trip threshold level.", 8 SENSE1- (in) "The Inputs to Each Differential Current Comparator. The ITH pin voltage and built-in offsets between the SENSE-  and SENSE+  pins, in conjunction with RSENSE, set the current trip threshold level.", 9 SENSE2+ (in) "The Inputs to Each Differential Current Comparator. The ITH pin voltage and built-in offsets between the SENSE-  and SENSE+  pins, in conjunction with RSENSE, set the current trip threshold level.", 10 SENSE2- (in) "The Inputs to Each Differential Current Comparator. The ITH pin voltage and built-in offsets between the SENSE-  and SENSE+  pins, in conjunction with RSENSE, set the current trip threshold level.", 11 SENSE3- (in) "The Inputs to Each Differential Current Comparator. The ITH pin voltage and built-in offsets between the SENSE-  and SENSE+  pins, in conjunction with RSENSE, set the current trip threshold level.", 12 SENSE3+ (in) "The Inputs to Each Differential Current Comparator. The ITH pin voltage and built-in offsets between the SENSE-  and SENSE+  pins, in conjunction with RSENSE, set the current trip threshold level.", 13 SS (in) "Combination of Soft-Start and Short-Circuit Detection Timer. A capacitor to ground at this pin sets the ramp time to full current output as well as the time delay prior to an output voltage short-circuit shutdown.", 14 ITH "Error Amplifier Output and Switching Regulator Compensation Point. All three current comparator’s thresholds increase with this control voltage.", 15 TSNS (in) "This pin selects external or internal thermal detection. Tying this pin to VCC will enable the internal thermal detector. When the voltage at this pin is less than VCC - 1.6V, the internal thermal detector is disabled and (See Datasheet)", 16 VR_HOTB (oc) "This open-collector output is pulled low when voltage at the TSNS pin is less than VCC/3. If TSNS is tied to VCC, this pin is pulled low when the internal thermal detector is tripped.", 17 VID3 (in) "Output Voltage Programming Input Pins. When VID5 is tied to VCC, the Intel VRM9 VID table is selected. When voltage of VID5 is less than VCC - 2V, VID5 serves as the fifth VID bit of VRM10.", 18 VID4 (in) "Output Voltage Programming Input Pins. When VID5 is tied to VCC, the Intel VRM9 VID table is selected. When voltage of VID5 is less than VCC - 2V, VID5 serves as the fifth VID bit of VRM10.", 19 BOOST3 "Positive Supply Pins to the Topside Floating Drivers. Bootstrapped capacitors, charged with external Schottky diodes and a boost voltage source are connected between the BOOST and SW pins. Voltage swing at the BOOST pins is (See Datasheet)", 20 TG3 (out) "High Current Gate Drives for Top N-Channel MOSFETs. These are the outputs of the floating drivers with a voltage swing equal to the boost voltage source superimposed on the switch node voltage SW.", 21 SW3 "Switch Node Connections to Inductors. Voltage swing at these pins is from a Schottky diode (external) voltage drop below ground to VIN (where VIN is the external MOSFET supply rail).", 22 BG3 (out) "High Current Gate Drives for the Bottom N-Channel MOSFETs. Voltage swing at these pins is from ground to VCC.", 23 BG2 (out) "High Current Gate Drives for the Bottom N-Channel MOSFETs. Voltage swing at these pins is from ground to VCC.", 24 PGND (power) "Driver Power Ground. This pin connects to the sources of the bottom N-channel external MOSFETs and the (-) terminals of CIN.", 25 BG1 (out) "High Current Gate Drives for the Bottom N-Channel MOSFETs. Voltage swing at these pins is from ground to VCC.", 26 VCC (power) "Supply Pin. Because this pin supplies both the controller circuit power as well as the high power pulses supplied to drive the external MOSFET gates, this pin needs to be very carefully and closely decoupled to the IC’(See Datasheet)", 27 SW2 "Switch Node Connections to Inductors. Voltage swing at these pins is from a Schottky diode (external) voltage drop below ground to VIN (where VIN is the external MOSFET supply rail).", 28 TG2 (out) "High Current Gate Drives for Top N-Channel MOSFETs. These are the outputs of the floating drivers with a voltage swing equal to the boost voltage source superimposed on the switch node voltage SW.", 29 BOOST2 "Positive Supply Pins to the Topside Floating Drivers. Bootstrapped capacitors, charged with external Schottky diodes and a boost voltage source are connected between the BOOST and SW pins. Voltage swing at the BOOST pins is (See Datasheet)", 30 SW1 "Switch Node Connections to Inductors. Voltage swing at these pins is from a Schottky diode (external) voltage drop below ground to VIN (where VIN is the external MOSFET supply rail).", 31 TG1 (out) "High Current Gate Drives for Top N-Channel MOSFETs. These are the outputs of the floating drivers with a voltage swing equal to the boost voltage source superimposed on the switch node voltage SW.", 32 BOOST1 "Positive Supply Pins to the Topside Floating Drivers. Bootstrapped capacitors, charged with external Schottky diodes and a boost voltage source are connected between the BOOST and SW pins. Voltage swing at the BOOST pins is (See Datasheet)", 33 PGOOD (oc) "This open-drain output is pulled low when the output voltage is outside the PGOOD tolerance window. PGOOD is blanked during VID transitions for approximately 100us.", 34 VID5 (in) "Output Voltage Programming Input Pins. When VID5 is tied to VCC, the Intel VRM9 VID table is selected. When voltage of VID5 is less than VCC - 2V, VID5 serves as the fifth VID bit of VRM10.", 35 VID0 (in) "Output Voltage Programming Input Pins. When VID5 is tied to VCC, the Intel VRM9 VID table is selected. When voltage of VID5 is less than VCC - 2V, VID5 serves as the fifth VID bit of VRM10.", 36 VID1 (in) "Output Voltage Programming Input Pins. When VID5 is tied to VCC, the Intel VRM9 VID table is selected. When voltage of VID5 is less than VCC - 2V, VID5 serves as the fifth VID bit of VRM10.", 37 VID2 (in) "Output Voltage Programming Input Pins. When VID5 is tied to VCC, the Intel VRM9 VID table is selected. When voltage of VID5 is less than VCC - 2V, VID5 serves as the fifth VID bit of VRM10.", 38 OUTEN (in) "On/Off Control of the Controller.", 39 EP (power) "Signal Ground. This pin must be soldered to the ground plane."

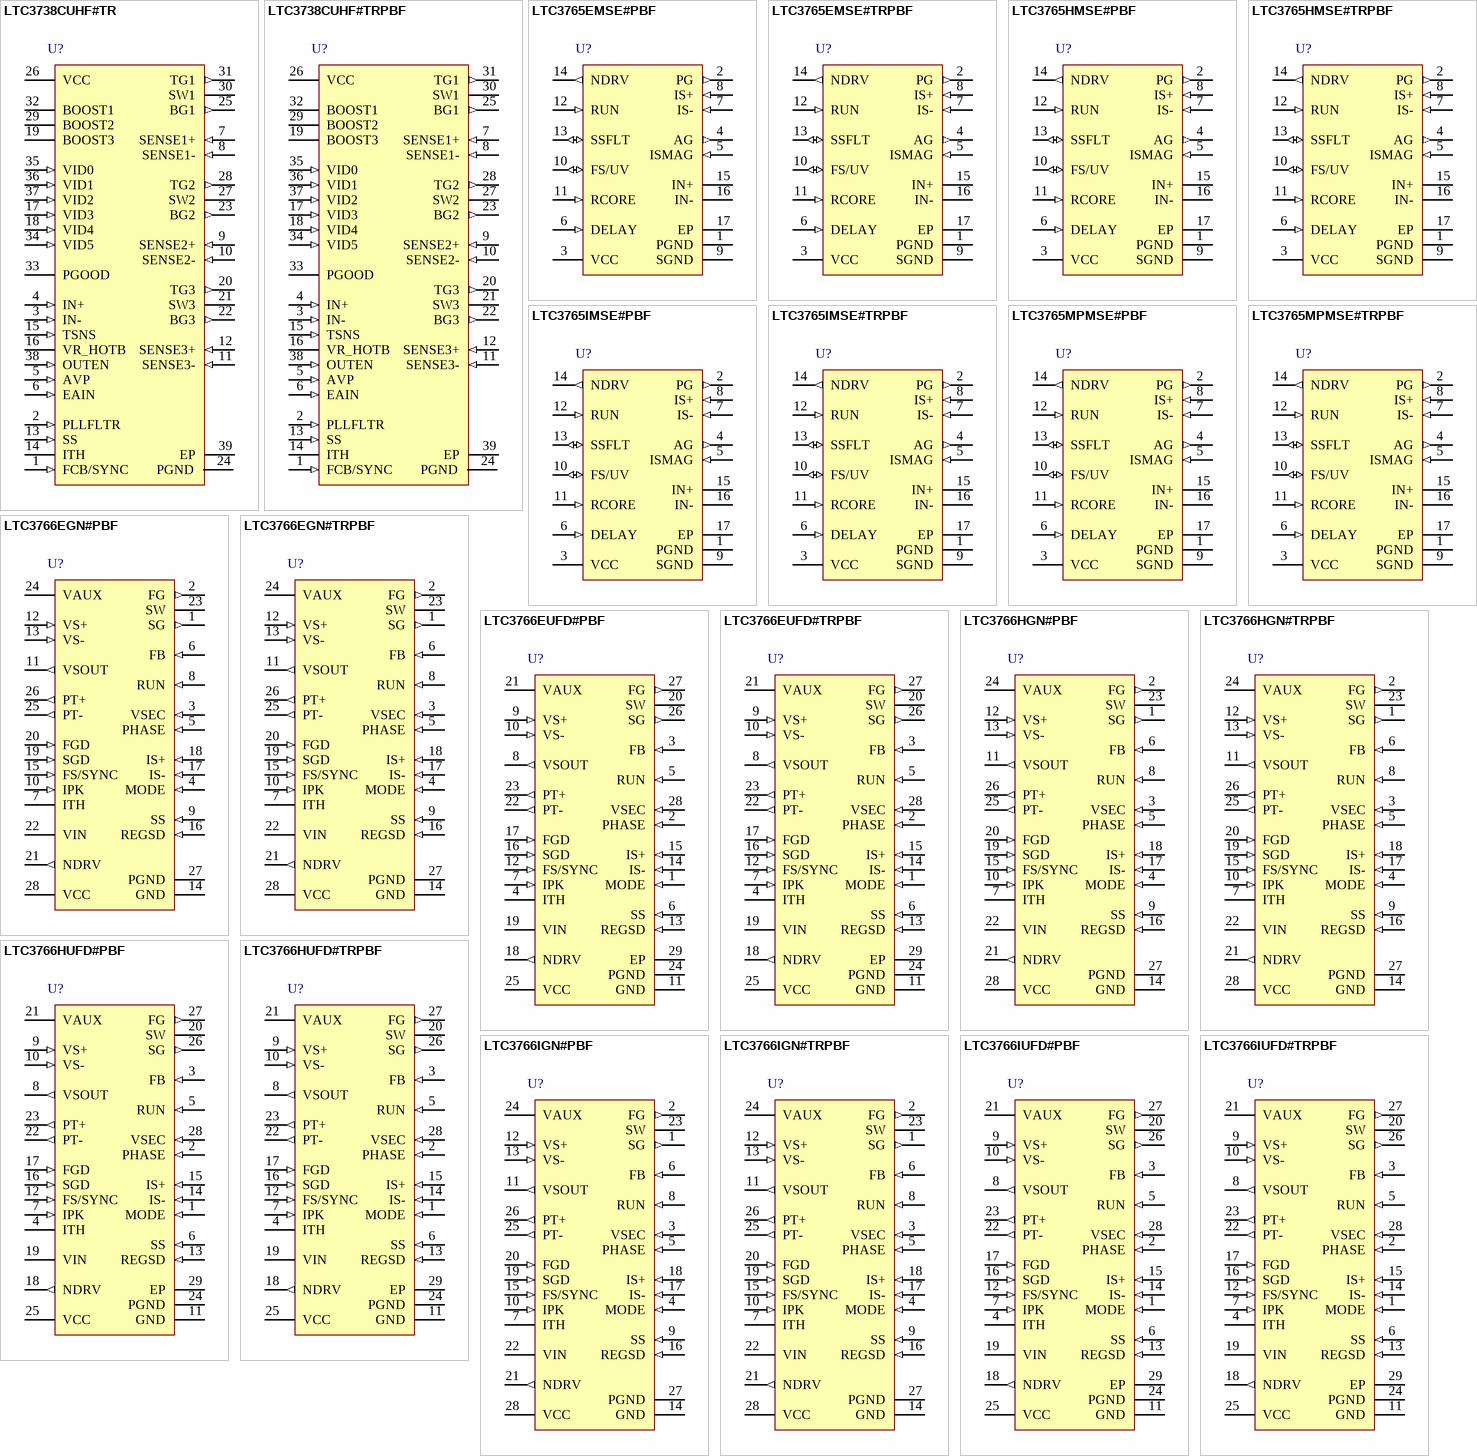
[diagram p67: symbols LTC3738CUHF#TR to LTC3766IUFD#TRPBF]